# EAGLE library part S9032-02 (library RGBcolorsensor)
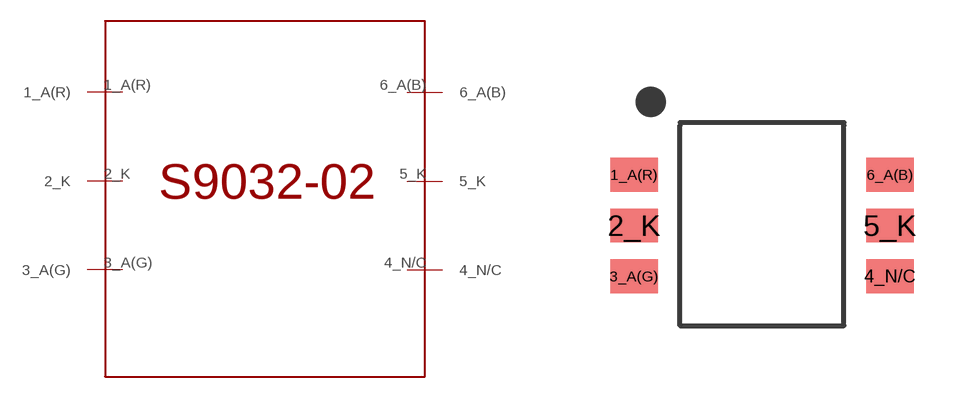
[diagram p0: symbol with the pads of S9032-02; footprint S9032-02]

Designator prefix -

## S9032-02  [S9032-02]
1_A(R)  1_A(R)
2_K  2_K
3_A(G)  3_A(G)
4_N/C  4_N/C
5_K  5_K
6_A(B)  6_A(B)

## Footprint S9032-02 (pad centres in mm)
smd 1.19 x 0.85: 1_A(R) -1.15,3.77; 2_K -1.15,2.5; 3_A(G) -1.15,1.23; 4_N/C 5.25,1.23; 5_K 5.25,2.5; 6_A(B) 5.25,3.77